# Altium footprint library LED_SMD.PcbLib: 82 footprints (part 5 of 6)
Each footprint in its own frame and in the unit in brackets; x right, y up, seen from the top. Pads: shape width x height; smd on the part's side, far side on the other; paste and mask are expansions set on the pad; w line width, h text height; cw(c..) or ccw(c..) is an arc to the next point about the centre after c.
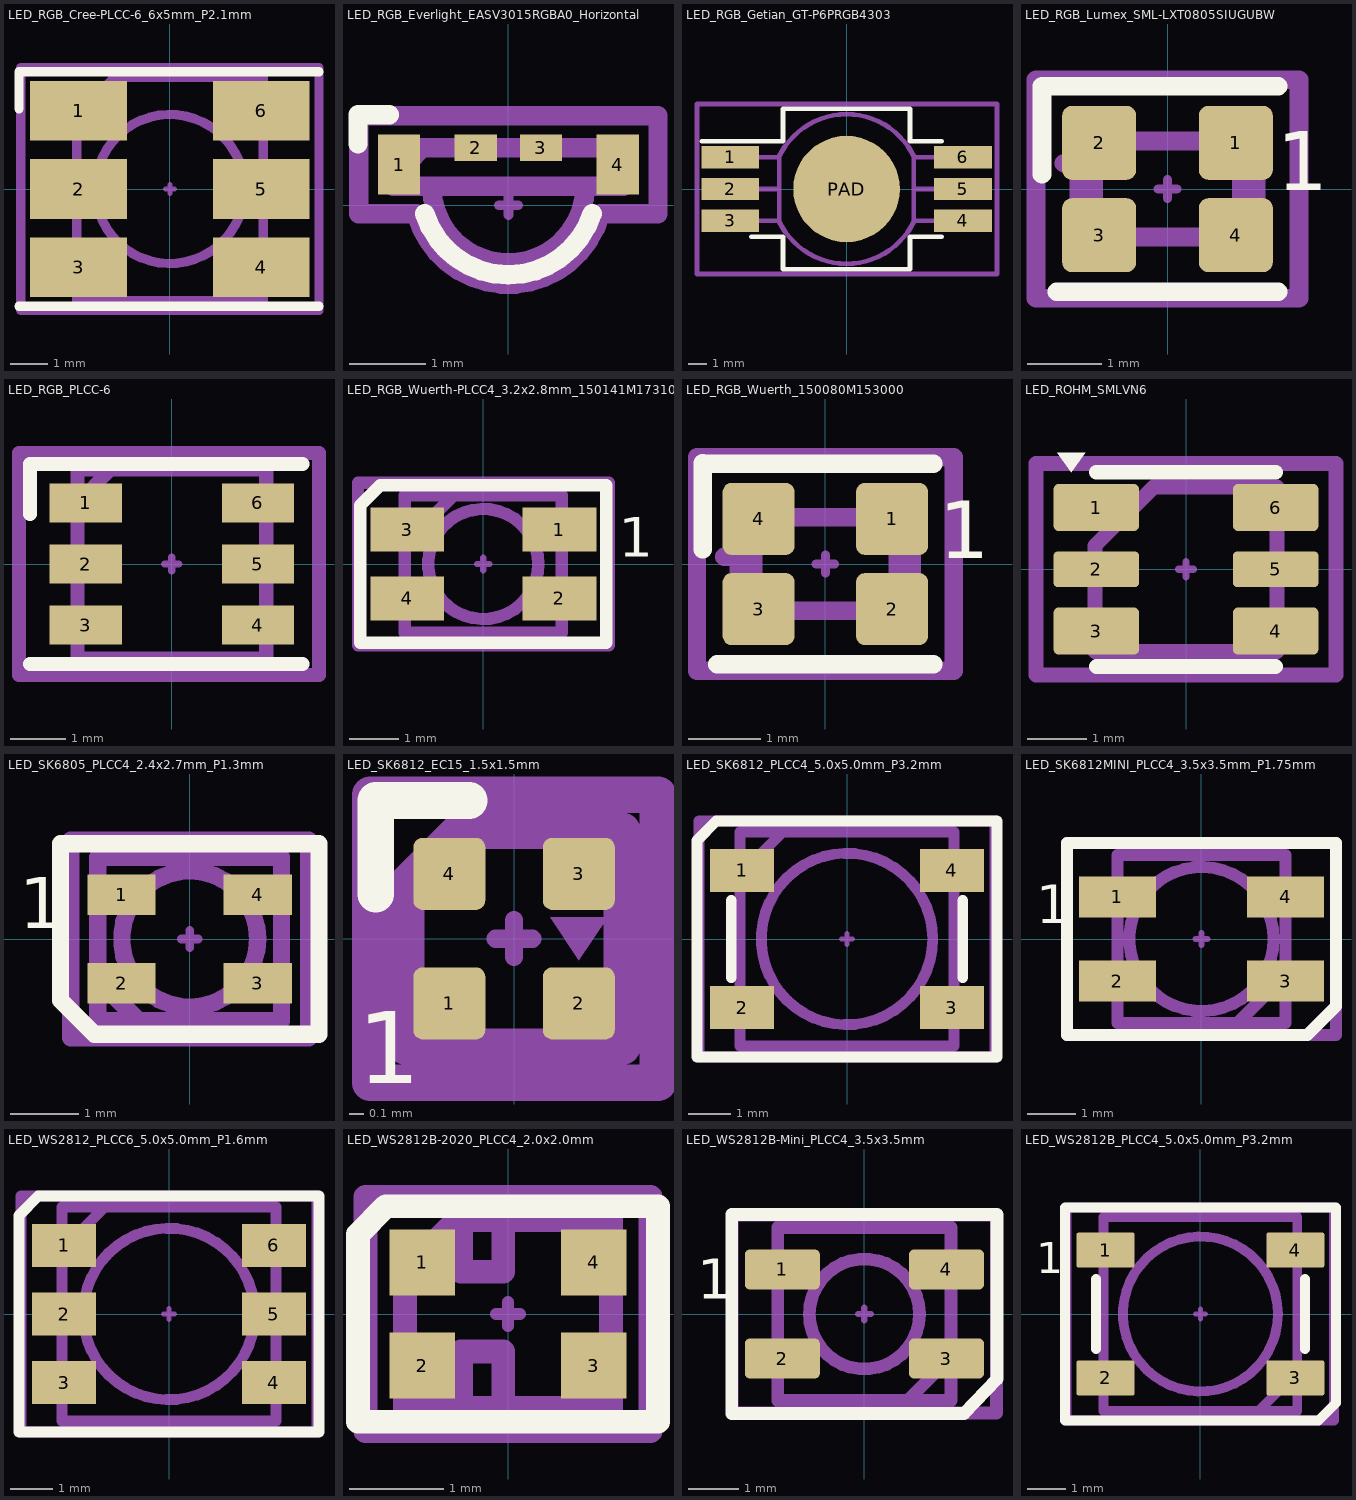
[diagram p4: the footprints below, top view; thin cyan lines are the x and y axes]

## LED_RGB_Cree-PLCC-6_6x5mm_P2.1mm [mm] "LED_RGB_Cree-PLCC-6_6x5mm_P2.1mm"
pads (6):
  rect 2.6x1.6 smd: 1(-2.45,2.1) 2(-2.45,0) 3(-2.45,-2.1) 4(2.45,-2.1) 5(2.45,0) 6(2.45,2.1)
F.SilkS:
  lines w0.254: -4.05,-3.15 4,-3.15 ; -4.05,2.15 -4.05,3.15 4,3.15
Top Component Center:
  lines w0.127: -0.127,0 0.127,0 ; 0,-0.127 0,0.127
Top Assembly:
  circle w0.254: c0,0 r2
  lines w0.254: -2.5,-3 2.5,-3 2.5,3 -1.5,3 -2.5,1.9 -2.5,-3
Top Courtyard:
  lines w0.254: -4,-3.25 4,-3.25 4,3.25 -4,3.25 -4,-3.25
Top Designator:
  text ".Designator" at -3.432,-0.345 h1.52

## LED_RGB_Everlight_EASV3015RGBA0_Horizontal [mm] "LED_RGB_Everlight_EASV3015RGBA0_Horizontal"
pads (4):
  rect 0.55x0.78 smd: 1(-1.425,0.53) 4(1.425,0.53)
  rect 0.55x0.34 smd: 2(-0.425,0.75) 3(0.425,0.75)
F.SilkS:
  lines w0.254: -1.96,0.8 -1.96,1.18 -1.55,1.18 ; -1.09,-0.11 ccw(c0,0.237) 1.09,-0.11
Top Component Center:
  lines w0.127: -0.127,0 0.127,0 ; 0,-0.127 0,0.127
Top Assembly:
  lines w0.254: -1.5,0.36 -1.12,0.75 ; -1,0.25 ccw(c0,0.25) 1,0.25 ; -1.5,0.25 -1.5,0.75 1.5,0.75 1.5,0.25 -1.5,0.25
Top Courtyard:
  lines w0.254: -1.95,-0.11 -1.95,1.17 1.95,1.17 1.95,-0.11 1.2,-0.11 cw(c0,0.213) -1.2,-0.11 -1.95,-0.11
Top Designator:
  text ".Designator" at -1.69,-0.17 h0.75

## LED_RGB_Getian_GT-P6PRGB4303 [mm] "LED_RGB_Getian_GT-P6PRGB4303"
pads (7):
  rect 3.1x1.2 smd: 1(-6.22,1.7) 2(-6.22,0) 3(-6.22,-1.7) 4(6.22,-1.7) 5(6.22,0) 6(6.22,1.7)
  round 5.7 smd: PAD(0,0)
F.SilkS:
  lines w0.254: -7.75,2.55 -3.4,2.55 -3.4,4.3 3.4,4.3 3.4,2.55 4.7,2.55 5.1,2.55 ; -5.1,-2.55 -3.4,-2.55 -3.4,-4.3 3.4,-4.3 3.4,-2.55 5.1,-2.55
Top Component Center:
  lines w0.127: -0.127,0 0.127,0 ; 0,-0.127 0,0.127
Top Assembly:
  lines w0.254: -6.2,-1.7 -3.6,-1.7 ; -6.2,0 -3.6,0 ; -6.2,1.7 -3.6,1.7 ; -3.625,-1.69 ccw(c0,0) 0,-4 ccw(c0,0) 3.625,-1.69 ; -3.625,1.69 cw(c0,0) 0,4 cw(c0,0) 3.625,1.69 ; -3.6,-1.8 -3.6,1.8 ; 3.6,-1.8 3.6,1.8 ; 3.6,-1.7 6.3,-1.7 ; 3.6,0 6.3,0 ; 3.6,1.7 6.3,1.7
Top Courtyard:
  lines w0.254: -8,-4.55 -8,4.55 8.05,4.55 8.05,-4.55 -8,-4.55
Top Designator:
  text ".Designator" at -3.432,-0.345 h1.52

## LED_RGB_Lumex_SML-LXT0805SIUGUBW [mm] "LED_RGB_Lumex_SML-LXT0805SIUGUBW"
pads (4):
  rrect25% 1x1 smd: 1(0.925,0.625) 2(-0.925,0.625) 3(-0.925,-0.625) 4(0.925,-0.625)
F.SilkS:
  lines w0.254: -1.7,0.2 -1.7,1.39 1.5,1.39 ; -1.5,-1.39 1.5,-1.39
  text "1" at 1.48,-0.02 h0.8
Top Component Center:
  lines w0.127: -0.127,0 0.127,0 ; 0,-0.127 0,0.127
Top Assembly:
  lines w0.254: -1.4,0.35 -1.2,0.35 ; -1.2,-0.5 -1.2,0.5 ; 1.2,-0.5 1.2,0.5 ; -1,-0.65 1,-0.65 1,0.65 -0.75,0.65 -1,0.4 -1,-0.65
Top Courtyard:
  lines w0.254: -1.78,-1.48 1.78,-1.48 1.78,1.48 -1.78,1.48 -1.78,-1.48
Top Designator:
  text ".Designator" at -1.69,-0.17 h0.75

## LED_RGB_PLCC-6 [mm] "LED_RGB_PLCC-6"
pads (6):
  rect 1.3x0.7 smd: 1(-1.55,1.1) 2(-1.55,0) 3(-1.55,-1.1) 4(1.55,-1.1) 5(1.55,0) 6(1.55,1.1)
F.SilkS:
  lines w0.254: -2.55,-1.8 2.35,-1.8 ; -2.55,0.9 -2.55,1.8 2.35,1.8
Top Component Center:
  lines w0.127: -0.127,0 0.127,0 ; 0,-0.127 0,0.127
Top Assembly:
  lines w0.254: -1.7,1.1 -1.1,1.7 ; -1.7,-1.7 -1.7,1.7 1.7,1.7 1.7,-1.7 -1.7,-1.7
Top Courtyard:
  lines w0.254: -2.75,-2 -2.75,2 2.65,2 2.65,-2 -2.75,-2
Top Designator:
  text ".Designator" at -2.253,-0.226 h1

## LED_RGB_Wuerth-PLCC4_3.2x2.8mm_150141M173100 [mm] "LED_RGB_Wuerth-PLCC4_3.2x2.8mm_150141M173100"
pads (4):
  rect 1.5x0.9 smd: 1(1.55,0.7) 2(1.55,-0.7) 3(-1.55,0.7) 4(-1.55,-0.7)
F.SilkS:
  lines w0.254: -2.5,-1.6 -2.5,1.2 -2.1,1.6 2.5,1.6 2.5,-1.6 -2.5,-1.6
  text "1" at 2.755,0.15 h0.8
Top Component Center:
  lines w0.127: -0.127,0 0.127,0 ; 0,-0.127 0,0.127
Top Assembly:
  circle w0.254: c0,0 r1.12
  lines w0.254: -1.6,0.4 -0.6,1.4 ; -1.6,-1.4 -1.6,1.4 1.6,1.4 1.6,-1.4 -1.6,-1.4
Top Courtyard:
  lines w0.254: -2.55,-1.65 -2.55,1.65 2.55,1.65 2.55,-1.65 -2.55,-1.65
Top Designator:
  text ".Designator" at -2.253,-0.226 h1
3D body "LED_RGB_Wuerth-PLCC4_3.2x2.8mm_150141M173100.step": height 2.05, standoff 0, extent -1.75,-1.4 1.75,1.4
3D body "LED_RGB_Wuerth-PLCC4_3.2x2.8mm_150141M173100.step": height 2.05, standoff 0, extent -1.75,-1.4 1.75,1.4

## LED_RGB_Wuerth_150080M153000 [mm] "LED_RGB_Wuerth_150080M153000"
pads (4):
  rrect25% 1x1 smd: 1(0.925,0.625) 2(0.925,-0.625) 3(-0.925,-0.625) 4(-0.925,0.625)
F.SilkS:
  lines w0.254: -1.7,0.2 -1.7,1.4 ; -1.69,1.39 1.5,1.39 ; -1.5,-1.39 1.5,-1.39
  text "1" at 1.58,0.08 h0.8
Top Component Center:
  lines w0.127: -0.127,0 0.127,0 ; 0,-0.127 0,0.127
Top Assembly:
  lines w0.254: -1.4,0.1 -1.2,0.1 ; -1.2,-0.1 -1.2,0.5 ; 1.2,-0.5 1.2,0.5 ; -1,-0.65 1,-0.65 1,0.65 -0.75,0.65 -1,0.4 -1,-0.65
Top Courtyard:
  lines w0.254: -1.78,-1.48 1.78,-1.48 1.78,1.48 -1.78,1.48 -1.78,-1.48
Top Designator:
  text ".Designator" at -1.69,-0.17 h0.75

## LED_ROHM_SMLVN6 [mm] "LED_ROHM_SMLVN6"
pads (6):
  rrect20% 1.45x0.8 smd: 1(-1.525,1.05) 3(-1.525,-1.05) 4(1.525,-1.05) 6(1.525,1.05)
  rrect20% 1.45x0.6 smd: 2(-1.525,0) 5(1.525,0)
F.SilkS:
  region: -1.95,1.65 -2.19,1.98 -1.71,1.98
  lines w0.254: -1.525,-1.65 1.525,-1.65 ; -1.525,1.65 1.525,1.65
Top Component Center:
  lines w0.127: -0.127,0 0.127,0 ; 0,-0.127 0,0.127
Top Assembly:
  lines w0.254: -1.55,-1.4 -1.55,0.4 -0.55,1.4 1.55,1.4 1.55,-1.4 -1.55,-1.4
Top Courtyard:
  lines w0.254: -2.55,-1.8 -2.55,1.8 2.55,1.8 2.55,-1.8 -2.55,-1.8
Top Designator:
  text ".Designator" at 0.17,-1.69 h0.75

## LED_SK6805_PLCC4_2.4x2.7mm_P1.3mm [mm] "LED_SK6805_PLCC4_2.4x2.7mm_P1.3mm"
pads (4):
  rect 1x0.6 smd: 1(-1,0.65) 2(-1,-0.65) 3(1,-0.65) 4(1,0.65)
F.SilkS:
  lines w0.254: -1.9,-0.9 -1.9,1.4 1.9,1.4 1.9,-1.4 -1.4,-1.4 -1.9,-0.9
  text "1" at -2.509,0.155 h0.75
Top Component Center:
  lines w0.127: -0.127,0 0.127,0 ; 0,-0.127 0,0.127
Top Assembly:
  circle w0.254: c0,0 r1
  lines w0.254: -1.35,-0.6 -0.75,-1.2 ; -1.35,-1.2 -1.35,1.2 1.35,1.2 1.35,-1.2 -1.35,-1.2
Top Courtyard:
  lines w0.254: -1.75,-1.45 -1.75,1.45 1.75,1.45 1.75,-1.45 -1.75,-1.45
Top Designator:
  text ".Designator" at -1.69,-0.17 h0.75

## LED_SK6812_EC15_1.5x1.5mm [mm] "LED_SK6812_EC15_1.5x1.5mm"
pads (4):
  rrect25% 0.5x0.5 smd: 1(-0.45,-0.45) 2(0.45,-0.45) 3(0.45,0.45) 4(-0.45,0.45)
F.SilkS:
  lines w0.254: -0.96,0.31 -0.96,0.96 -0.31,0.96
  text "1" at -1.085,-1.005 h0.5
Top Component Center:
  lines w0.127: -0.127,0 0.127,0 ; 0,-0.127 0,0.127
Top Assembly:
  region: 0.45,-0.15 0.25,0.15 0.65,0.15
  lines w0.254: -0.75,-0.75 0.75,-0.75 0.75,0.75 -0.375,0.75 -0.75,0.375 -0.75,-0.75
Top Courtyard:
  lines w0.254: -1,-1 1,-1 1,1 -1,1 -1,-1
Top Designator:
  text ".Designator" at 0.097,-1.202 h0.5

## LED_SK6812_PLCC4_5.0x5.0mm_P3.2mm [mm] "LED_SK6812_PLCC4_5.0x5.0mm_P3.2mm"
pads (4):
  rect 1.5x1 smd: 1(-2.45,1.6) 2(-2.45,-1.6) 3(2.45,-1.6) 4(2.45,1.6)
F.SilkS:
  lines w0.254: -2.7,-0.9 -2.7,0.9 ; 2.7,-0.9 2.7,0.9 ; -3.5,-2.75 -3.5,2.3 -3.05,2.75 3.5,2.75 3.5,-2.75 -3.5,-2.75
Top Component Center:
  lines w0.127: -0.127,0 0.127,0 ; 0,-0.127 0,0.127
Top Assembly:
  circle w0.254: c0,0 r2
  lines w0.254: -2.5,1.5 -1.5,2.5 ; -2.5,-2.5 -2.5,2.5 2.5,2.5 2.5,-2.5 -2.5,-2.5
Top Courtyard:
  lines w0.254: -3.45,-2.75 -3.45,2.75 3.45,2.75 3.45,-2.75 -3.45,-2.75
Top Designator:
  text ".Designator" at -3.38,-0.339 h1.5
3D body "LED_SK6812_PLCC4_5.0x5.0mm_P3.2mm.step": height 1.7, standoff 0, extent -2.7,-2.5 2.7,2.5

## LED_SK6812MINI_PLCC4_3.5x3.5mm_P1.75mm [mm] "LED_SK6812MINI_PLCC4_3.5x3.5mm_P1.75mm"
pads (4):
  rect 1.6x0.85 smd: 1(-1.75,0.875) 2(-1.75,-0.875) 3(1.75,-0.875) 4(1.75,0.875)
F.SilkS:
  lines w0.254: -2.8,-2 -2.8,2 2.8,2 2.8,-1.4 2.2,-2 -2.8,-2
  text "1" at -3.445,0.325 h0.8
Top Component Center:
  lines w0.127: -0.127,0 0.127,0 ; 0,-0.127 0,0.127
Top Assembly:
  circle w0.254: c0,0 r1.5
  lines w0.254: 0.75,-1.75 1.75,-0.75 ; -1.75,-1.75 -1.75,1.75 1.75,1.75 1.75,-1.75 -1.75,-1.75
Top Courtyard:
  lines w0.254: -2.8,-2 -2.8,2 2.8,2 2.8,-2 -2.8,-2
Top Designator:
  text ".Designator" at -2.253,-0.226 h1

## LED_WS2812_PLCC6_5.0x5.0mm_P1.6mm [mm] "LED_WS2812_PLCC6_5.0x5.0mm_P1.6mm"
pads (6):
  rect 1.5x1 smd: 1(-2.45,1.6) 2(-2.45,0) 3(-2.45,-1.6) 4(2.45,-1.6) 5(2.45,0) 6(2.45,1.6)
F.SilkS:
  lines w0.254: -3.5,-2.75 3.5,-2.75 3.5,2.75 -3.05,2.75 -3.5,2.3 -3.5,-2.75
Top Component Center:
  lines w0.127: -0.127,0 0.127,0 ; 0,-0.127 0,0.127
Top Assembly:
  circle w0.254: c0,0 r2
  lines w0.254: -2.5,1.5 -1.5,2.5 ; -2.5,-2.5 2.5,-2.5 2.5,2.5 -2.5,2.5 -2.5,-2.5
Top Courtyard:
  lines w0.254: -3.45,-2.75 3.45,-2.75 3.45,2.75 -3.45,2.75 -3.45,-2.75
Top Designator:
  text ".Designator" at -3.38,-0.339 h1.5
3D body "LED_WS2812_PLCC6_5.0x5.0mm_P1.6mm.step": height 1.85, standoff 0, extent -2.7,-2.5 2.7,2.5

## LED_WS2812B-2020_PLCC4_2.0x2.0mm [mm] "LED_WS2812B-2020_PLCC4_2.0x2.0mm"
pads (4):
  rect 0.7x0.7 smd: 1(-0.915,0.55) 2(-0.915,-0.55) 3(0.915,-0.55) 4(0.915,0.55)
F.SilkS:
  lines w0.254: -1.6,-1.15 1.6,-1.15 1.6,1.15 -1.3,1.15 -1.6,0.85 -1.6,-1.15
Top Component Center:
  lines w0.127: -0.127,0 0.127,0 ; 0,-0.127 0,0.127
Top Assembly:
  lines w0.254: -1.1,-1 1.1,-1 1.1,1 -0.55,1 -1.1,0.45 -1.1,-1 ; -0.5,-1 -0.05,-1 -0.05,-0.4 -0.5,-0.4 -0.5,-1 ; -0.5,0.45 -0.05,0.45 -0.05,1 -0.5,1 -0.5,0.45
Top Courtyard:
  lines w0.254: -1.52,-1.25 1.52,-1.25 1.52,1.25 -1.52,1.25 -1.52,-1.25
Top Designator:
  text ".Designator" at 0.17,-1.69 h0.75

## LED_WS2812B-Mini_PLCC4_3.5x3.5mm [mm] "LED_WS2812B-Mini_PLCC4_3.5x3.5mm"
pads (4):
  rrect25% 1.5x0.8 smd: 1(-1.64,0.89) 2(-1.64,-0.89) 3(1.64,-0.89) 4(1.64,0.89)
F.SilkS:
  lines w0.254: -2.65,-1.99 1.99,-1.99 2.65,-1.3 2.65,1.99 -2.65,1.99 -2.65,-1.99
  text "1" at -3.345,0.3 h0.8
Top Component Center:
  lines w0.127: -0.127,0 0.127,0 ; 0,-0.127 0,0.127
Top Assembly:
  circle w0.254: c0,0 r1.1
  lines w0.254: 0.86,-1.73 1.73,-0.86 ; -1.73,-1.73 1.73,-1.73 1.73,1.73 -1.73,1.73 -1.73,-1.73
Top Courtyard:
  lines w0.254: -2.64,-1.98 2.64,-1.98 2.64,1.98 -2.64,1.98 -2.64,-1.98
Top Designator:
  text ".Designator" at -3.38,-0.339 h1.5
3D body "LED_WS2812B-Mini_PLCC4_3.5x3.5mm.step": height 1.9, standoff 0, extent -1.84,-1.73 1.84,1.73

## LED_WS2812B_PLCC4_5.0x5.0mm_P3.2mm [mm] "LED_WS2812B_PLCC4_5.0x5.0mm_P3.2mm"
pads (4):
  rrect10% 1.5x0.9 smd: 1(-2.45,1.65) 2(-2.45,-1.65) 3(2.45,-1.65) 4(2.45,1.65)
F.SilkS:
  lines w0.254: -2.7,-0.9 -2.7,0.9 ; 2.7,-0.9 2.7,0.9 ; -3.5,-2.75 -3.5,2.75 3.5,2.75 3.5,-2.3 3.05,-2.75 -3.5,-2.75
  text "1" at -4.245,1.05 h0.8
Top Component Center:
  lines w0.127: -0.127,0 0.127,0 ; 0,-0.127 0,0.127
Top Assembly:
  circle w0.254: c0,0 r2
  lines w0.254: 1.5,-2.5 2.5,-1.5 ; -2.5,-2.5 -2.5,2.5 2.5,2.5 2.5,-2.5 -2.5,-2.5
Top Courtyard:
  lines w0.254: -3.45,-2.75 -3.45,2.75 3.45,2.75 3.45,-2.75 -3.45,-2.75
Top Designator:
  text ".Designator" at -3.38,-0.339 h1.5
3D body "LED_WS2812B_PLCC4_5.0x5.0mm_P3.2mm.step": height 1.6, standoff 0, extent -2.7,-2.5 2.7,2.5